# EAGLE library part ACAC_0612_RES_ARRAY (library MDB_HOME_kap)
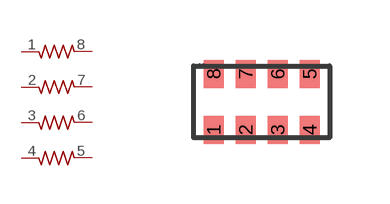
[diagram p12: symbol with the pads of ACAC_0612; footprint ACAC_0612]

Designator prefix -; gates G$1=R1NV G$2=R1NV G$3=R1NV G$4=R1NV

## ACAC_0612_RES_ARRAY_C  [ACAC_0612]
1  G$1:1  pas
2  G$2:1  pas
3  G$3:1  pas
4  G$4:1  pas
5  G$4:2  pas
6  G$3:2  pas
7  G$2:2  pas
8  G$1:2  pas

## Footprint ACAC_0612 (pad centres in mm)
smd 0.5 x 0.7: 1 0.25,0.35; 2 1.05,0.35; 3 1.85,0.35; 4 2.65,0.35; 5 2.65,1.75; 6 1.85,1.75; 7 1.05,1.75; 8 0.25,1.75